# EAGLE library part ADS1118IDGST (library JOSIAHLIB)
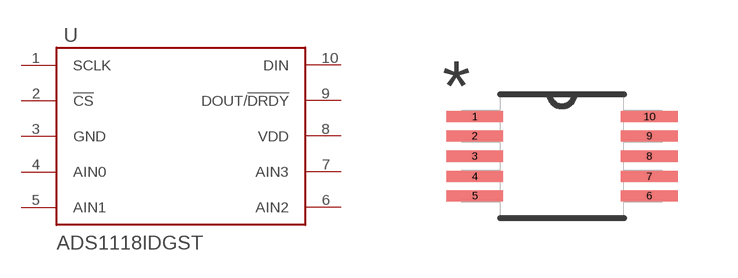
[diagram p5: symbol with the pads of 10-VSSOP; footprint 10-VSSOP]

Designator prefix U

## ADS1118IDGST  [10-VSSOP]
1  SCLK  in
2  !CS
3  GND
4  AIN0  in
5  AIN1  in
6  AIN2
7  AIN3
8  VDD
9  DOUT/!DRDY
10  DIN

## Footprint 10-VSSOP (pad centres in mm)
smd 1.422 x 0.279: 1 -2.154,0.691; 2 -2.154,0.208; 3 -2.154,-0.3; 4 -2.154,-0.808; 5 -2.154,-1.291; 6 2.214,-1.291; 7 2.214,-0.808; 8 2.214,-0.3; 9 2.214,0.208; 10 2.214,0.691